# Altium schematic symbol library General_Inductor.SchLib: 1 symbol
Pins are listed as number, name and electrical type; pins without a type are passive.

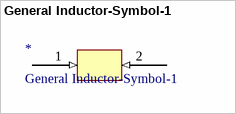
[diagram p0: symbol General Inductor-Symbol-1]

## General Inductor-Symbol-1
designator *
footprint Inductor_v1
pins: 1 (in), 2 (in)